# Altium schematic symbol library SCH - TI TPS6104X.SchLib: 1 symbol
Pins are listed as number, name and electrical type; pins without a type are passive.

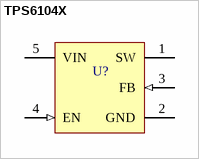
[diagram p0: symbol TPS6104X]

## TPS6104X
designator U?
pins: 1 SW (power) "Connect the inductor and the Schottky diode to this pin. This is the switch pin and is connected to the drain of the internal power MOSFET.", 2 GND (power) "Ground", 3 FB (in) "This is the feedback pin of the device. Connect this pin to the external voltage divider to program the desired output voltage.", 4 EN (in) "This is the enable pin of the device. Pulling this pin to ground forces the device into shutdown mode reducing the supply current to less than 1 mA. This pin should not be left floating and needs to be terminated.", 5 VIN (power) "Supply voltage pin"